# Altium footprint library BGA.PcbLib: 3 footprints
Each footprint in its own frame and in the unit in brackets; x right, y up, seen from the top. Pads: shape width x height; smd on the part's side, far side on the other; paste and mask are expansions set on the pad; w line width, h text height; cw(c..) or ccw(c..) is an arc to the next point about the centre after c.
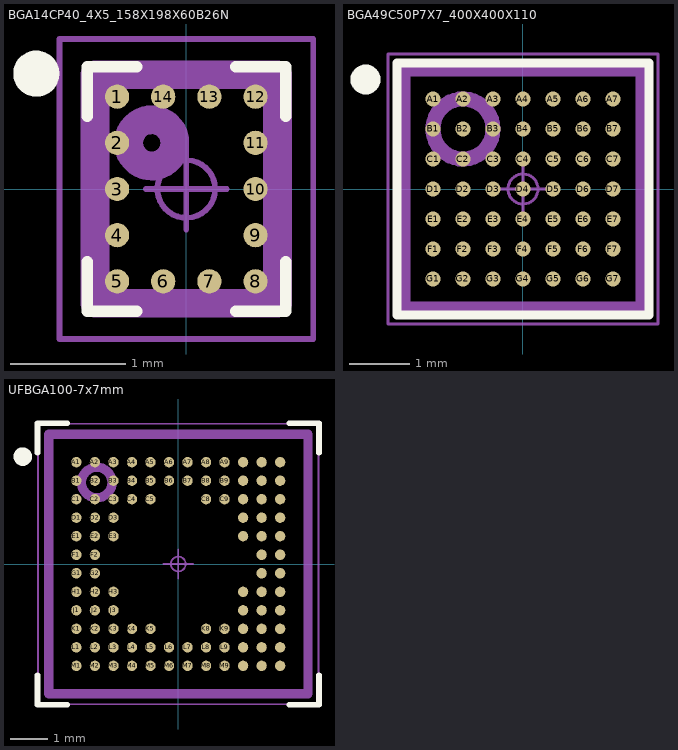
[diagram p0: the footprints below, top view; thin cyan lines are the x and y axes]

## BGA14CP40_4X5_158X198X60B26N [mm] "Ball Grid Array (BGA), 0.40 mm pitch, rect.; 14 pin, 1.58 mm L X 1.98 mm W X 0.602 mm H body"
height 0.602
pads (14):
  round 0.21 smd: 1(-0.6,0.8) 2(-0.6,0.4) 3(-0.6,0) 4(-0.6,-0.4) 5(-0.6,-0.8) 6(-0.2,-0.8) 7(0.2,-0.8) 8(0.6,-0.8) 9(0.6,-0.4) 10(0.6,0) 11(0.6,0.4) 12(0.6,0.8) 13(0.2,0.8) 14(-0.2,0.8)
Top Overlay:
  circle w0.2: c-1.3,1 r0.1
  lines w0.1: -0.86,-0.63 -0.86,-1.06 -0.43,-1.06 ; -0.86,0.63 -0.86,1.06 -0.43,1.06 ; 0.43,-1.06 0.86,-1.06 0.86,-0.63 ; 0.43,1.06 0.86,1.06 0.86,0.63
Top Assembly:
  circle w0.25: c-0.3,0.4 r0.2
  lines w0.25: -0.79,-0.99 -0.79,0.99 0.79,0.99 0.79,-0.99 -0.79,-0.99
  text ".Designator" at -2.3,1.5 h1.5
Top Courtyard:
  circle w0.05: c0,0 r0.25
  lines w0.05: -0.35,0 0.35,0 ; 0,-0.35 0,0.35 ; -1.1,-1.3 1.1,-1.3 1.1,1.3 -1.1,1.3 -1.1,-1.3
3D body "BGA14CP40_4X5_158X198X60B26.STEP": height 0.6, standoff 0, extent -0.79,-0.99 0.79,0.99

## BGA49C50P7X7_400X400X110 [mm] "BGA, 49-Leads, Body 4.00x4.00mmx1.10mm, Pitch 0.50mm"
height 1.1
pads (49):
  round 0.25 smd: A1(-1.5,1.5) A2(-1,1.5) A3(-0.5,1.5) A4(0,1.5) A5(0.5,1.5) A6(1,1.5) A7(1.5,1.5) B1(-1.5,1) B2(-1,1) B3(-0.5,1) B4(0,1) B5(0.5,1) B6(1,1) B7(1.5,1) C1(-1.5,0.5) C2(-1,0.5) C3(-0.5,0.5) C4(0,0.5) C5(0.5,0.5) C6(1,0.5) C7(1.5,0.5) D1(-1.5,0) D2(-1,0) D3(-0.5,0) D4(0,0) D5(0.5,0) D6(1,0) D7(1.5,0) E1(-1.5,-0.5) E2(-1,-0.5) E3(-0.5,-0.5) E4(0,-0.5) E5(0.5,-0.5) E6(1,-0.5) E7(1.5,-0.5) F1(-1.5,-1) F2(-1,-1) F3(-0.5,-1) F4(0,-1) F5(0.5,-1) F6(1,-1) F7(1.5,-1) G1(-1.5,-1.5) G2(-1,-1.5) G3(-0.5,-1.5) G4(0,-1.5) G5(0.5,-1.5) G6(1,-1.5) G7(1.5,-1.5)
Top Overlay:
  circle w0.25: c-2.625,1.825 r0.125
  lines w0.15: -2.1,-2.1 2.1,-2.1 2.1,2.1 -2.1,2.1 -2.1,-2.1
Top Assembly:
  circle w0.25: c-1,1 r0.5
  lines w0.25: -2,-2 2,-2 2,2 -2,2 -2,-2
  text ".Designator" at -1.5,-1.018 h1.5
Top Courtyard:
  circle w0.05: c0,0 r0.25
  lines w0.05: -0.5,0 0.5,0 ; 0,-0.5 0,0.5 ; -2.25,-2.25 2.25,-2.25 2.25,2.25 -2.25,2.25 -2.25,-2.25
3D body "BGA49C50P7X7_400X400X110.step": height 1.1, standoff 0, extent -2,-2 2,2

## UFBGA100-7x7mm [mm]
pads (100):
  round 0.28 smd mask+0.05: A1(-2.75,2.75) A2(-2.25,2.75) A3(-1.75,2.75) A4(-1.25,2.75) A5(-0.75,2.75) A6(-0.25,2.75) A7(0.25,2.75) A8(0.75,2.75) A9(1.25,2.75) A10(1.75,2.75) A11(2.25,2.75) A12(2.75,2.75) B1(-2.75,2.25) B2(-2.25,2.25) B3(-1.75,2.25) B4(-1.25,2.25) B5(-0.75,2.25) B6(-0.25,2.25) B7(0.25,2.25) B8(0.75,2.25) B9(1.25,2.25) B10(1.75,2.25) B11(2.25,2.25) B12(2.75,2.25) C1(-2.75,1.75) C2(-2.25,1.75) C3(-1.75,1.75) C4(-1.25,1.75) C5(-0.75,1.75) C8(0.75,1.75) C9(1.25,1.75) C10(1.75,1.75) C11(2.25,1.75) C12(2.75,1.75) D1(-2.75,1.25) D2(-2.25,1.25) D3(-1.75,1.25) D10(1.75,1.25) D11(2.25,1.25) D12(2.75,1.25) E1(-2.75,0.75) E2(-2.25,0.75) E3(-1.75,0.75) E10(1.75,0.75) E11(2.25,0.75) E12(2.75,0.75) F1(-2.75,0.25) F2(-2.25,0.25) F11(2.25,0.25) F12(2.75,0.25) G1(-2.75,-0.25) G2(-2.25,-0.25) G11(2.25,-0.25) G12(2.75,-0.25) H1(-2.75,-0.75) H2(-2.25,-0.75) H3(-1.75,-0.75) H10(1.75,-0.75) H11(2.25,-0.75) H12(2.75,-0.75) J1(-2.75,-1.25) J2(-2.25,-1.25) J3(-1.75,-1.25) J10(1.75,-1.25) J11(2.25,-1.25) J12(2.75,-1.25) K1(-2.75,-1.75) K2(-2.25,-1.75) K3(-1.75,-1.75) K4(-1.25,-1.75) K5(-0.75,-1.75) K8(0.75,-1.75) K9(1.25,-1.75) K10(1.75,-1.75) K11(2.25,-1.75) K12(2.75,-1.75) L1(-2.75,-2.25) L2(-2.25,-2.25) L3(-1.75,-2.25) L4(-1.25,-2.25) L5(-0.75,-2.25) L6(-0.25,-2.25) L7(0.25,-2.25) L8(0.75,-2.25) L9(1.25,-2.25) L10(1.75,-2.25) L11(2.25,-2.25) L12(2.75,-2.25) M1(-2.75,-2.75) M2(-2.25,-2.75) M3(-1.75,-2.75) M4(-1.25,-2.75) M5(-0.75,-2.75) M6(-0.25,-2.75) M7(0.25,-2.75) M8(0.75,-2.75) M9(1.25,-2.75) M10(1.75,-2.75) M11(2.25,-2.75) M12(2.75,-2.75)
Top Overlay:
  circle w0.3: c-4.2,2.9 r0.1
  lines w0.15: -3.8,-3 -3.8,-3.8 -3,-3.8 ; -3.8,3 -3.8,3.8 -3,3.8 ; 3,-3.8 3.8,-3.8 3.8,-3 ; 3,3.8 3.8,3.8 3.8,3
Top Assembly:
  circle w0.25: c-2.2,2.2 r0.412
  lines w0.25: -3.5,-3.5 3.5,-3.5 3.5,3.5 -3.5,3.5 -3.5,-3.5
  text ".Designator" at -3.1,-0.5 h1.5
Top Courtyard:
  circle w0.05: c0,0 r0.2
  lines w0.05: -0.4,0 0.4,0 ; 0,-0.4 0,0.4 ; -3.785,-3.785 3.785,-3.785 3.785,3.785 -3.785,3.785 -3.785,-3.785
3D body "BGA140CP50_12X12_700X700X30B26.STEP": height 0.3, standoff 0, extent -3.5,-3.5 3.5,3.5